# Altium footprint library PowerSupply.PcbLib: 26 footprints (part 2 of 2)
Each footprint in its own frame and in the unit in brackets; x right, y up, seen from the top. Pads: shape width x height; smd on the part's side, far side on the other; paste and mask are expansions set on the pad; w line width, h text height; cw(c..) or ccw(c..) is an arc to the next point about the centre after c.
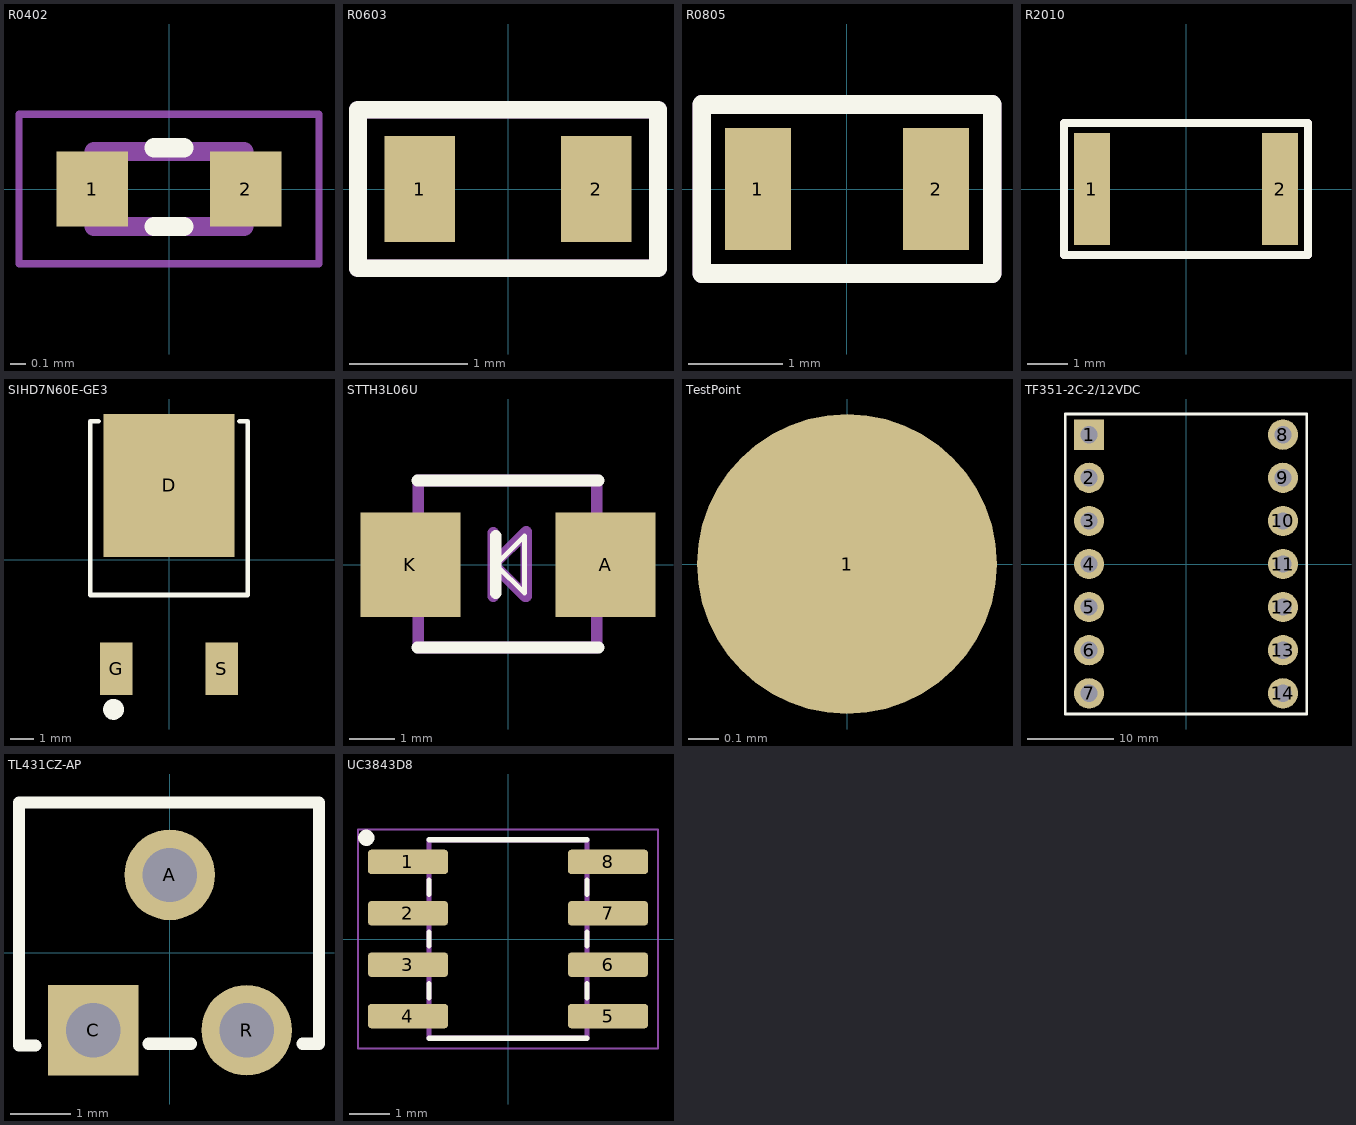
[diagram p1: the footprints below, top view; thin cyan lines are the x and y axes]

## R0402 [mm]
pads (2):
  rect 0.475x0.5 smd: 1(-0.512,0) 2(0.512,0)
Top Overlay:
  lines w0.127: -0.1,-0.25 0.1,-0.25 ; -0.1,0.275 0.1,0.275
Mechanical 13:
  lines w0.127: -0.5,-0.25 0.5,-0.25 0.5,0.25 -0.5,0.25 -0.5,-0.25
  text "'.Designator'" at -3.965,-0.292 h0.7
Mechanical 15:
  lines w0.05: -1,-0.5 1,-0.5 1,0.5 -1,0.5 -1,-0.5
3D body "step_temp.STEP": height 0.35, standoff 0, extent -0.5,-0.25 0.5,0.25

## R0603 [mm] "Guidelines for Footprint Design - Walsin Technology Corporation"
pads (2):
  rect 0.6x0.9 smd: 1(-0.75,0) 2(0.75,0)
Top Overlay:
  lines w0.15: -1.275,-0.675 1.275,-0.675 1.275,0.675 -1.275,0.675 -1.275,-0.675
Mechanical 29:
  lines w0.15: -1.275,-0.675 -1.275,0.675 1.275,0.675 1.275,-0.675 -1.275,-0.675
  text ".Designator" at -1,-0.425 h0.8
3D body "R0603_Package.STEP": height 0.44, standoff -0.02, extent -0.8,-0.4 0.8,0.4

## R0805 [mm] "Guidelines for Footprint Design - Walsin Technology Corporation"
pads (2):
  rect 0.7x1.3 smd: 1(-0.95,0) 2(0.95,0)
Top Overlay:
  lines w0.2: -1.55,-0.9 1.55,-0.9 1.55,0.9 -1.55,0.9 -1.55,-0.9
Mechanical 29:
  lines w0.2: -1.55,-0.9 1.55,-0.9 1.55,0.9 -1.55,0.9 -1.55,-0.9
  text ".Designator" at -1.3,-0.4 h0.8
3D body "R0805_Package.STEP": height 0.59, standoff -0.01, extent -1,-0.625 1,0.625
3D body "R0805_Package.STEP": height 0.59, standoff -0.01, extent -1,-0.6 1,0.65

## R2010 [mm]
pads (2):
  rect 0.9x2.8 smd: 1(-2.35,0) 2(2.35,0)
Top Overlay:
  lines w0.2: -3.05,-1.65 -3.05,1.65 3.05,1.65 3.05,-1.65 -3.05,-1.65
Mechanical 29:
  lines w0.2: -3.05,-1.65 3.05,-1.65 3.05,1.65 -3.05,1.65 -3.05,-1.65
  text ".Designator" at -2.25,-0.4 h1
3D body "R2010_Package.STEP": height 0.6, standoff 0, extent -2.5,-1.25 2.5,1.25

## SIHD7N60E-GE3 [mil]
pads (3):
  rect 224.02x243.31 smd: D(0,126.67)
  rect 55x90 smd: G(-90,-185.73) S(90,-185.73)
Top Overlay:
  circle w19.68: c-94.49,-254.92 r7.87
  lines w7.87: -120.08,236.22 -133.86,236.22 -133.86,-60.04 133.86,-60.04 133.86,236.22 120.08,236.22
Mechanical 1:
  text "'.Designator'" at -156.12,-11.48 h27.56
3D body "DPAK_N60E-E3_VIS.step": height 96.6, standoff 0.5, extent -132.51,-223.5 132.53,235.52

## STTH3L06U [mm]
pads (2):
  rect 2.2x2.3 smd mask+0.1: A(2.15,0) K(-2.15,0)
Top Overlay:
  lines w0.102: -0.271,0 0.364,0.635 0.364,0 0.364,-0.635 -0.271,0
  lines w0.25: -0.271,-0.635 -0.271,0 -0.271,0.635
  lines w0.254: -2,-1.825 2,-1.825 ; -2,1.85 2,1.85
Mechanical 1:
  text "'.Designator'" at -4.042,1.105 h0.7
Mechanical 29:
  lines w0.254: -0.325,-0.7 -0.325,0.7 ; 0.375,-0.7 -0.325,0 0.4,0.725 0.4,-0.7 ; 0.869,1.85 1.95,1.85 1.95,-1.825 -1.975,-1.825 -1.975,1.85 1.825,1.85
  text ".Designator" at -3.25,2.725 h1.3
3D body "User Library-DO-214AA_SMB.STEP": height 2.25, standoff 0, extent -2.65,-1.85 2.65,1.85

## TestPoint [mm]
pads (1):
  round 1 smd paste-10 mask+0.1: 1(0,0)
Top Designator:
  text ".Designator" at -2.999,-0.2 h0.6
Top Component Center:
  lines w0.15: -0.25,0 0.25,0 ; 0,-0.25 0,0.25

## TF351-2C-2/12VDC [mm]
pads (14):
  rect 3.5x3.5 hole 2: 1(-11.25,15)
  round 3.5 hole 2: 2(-11.25,10) 3(-11.25,5) 4(-11.25,0) 5(-11.25,-5) 6(-11.25,-10) 7(-11.25,-15) 8(11.25,15) 9(11.25,10) 10(11.25,5) 11(11.25,0) 12(11.25,-5) 13(11.25,-10) 14(11.25,-15)
Top Overlay:
  lines w0.3: -14,-17.4 14,-17.4 14,17.4 -14,17.4 -14,-17.4
Mechanical 1:
  text "'.Designator'" at -3.965,-0.292 h0.7
3D body: height 36.27, standoff 35, extent -12.5,-12.496 12.5,12.497
3D body: height 35, standoff 9.4, extent -7.1,-7.1 7.1,7.1
3D body: height 9.4, standoff 0, extent -14,-17.4 14,17.4
3D body: height 0, standoff -4, extent 10.721,-15.526 11.767,-14.478
3D body: height 0, standoff -4, extent 10.721,-10.526 11.767,-9.478
3D body: height 0, standoff -4, extent 10.721,-5.526 11.767,-4.478
3D body: height 0, standoff -4, extent 10.721,-0.526 11.767,0.522
3D body: height 0, standoff -4, extent 10.721,4.474 11.767,5.522
3D body: height 0, standoff -4, extent 10.721,9.474 11.767,10.522
3D body: height 0, standoff -4, extent 10.721,14.474 11.767,15.522
3D body: height 0, standoff -4, extent -11.779,-15.526 -10.733,-14.478
3D body: height 0, standoff -4, extent -11.779,-10.526 -10.733,-9.478
3D body: height 0, standoff -4, extent -11.779,-5.526 -10.733,-4.478
3D body: height 0, standoff -4, extent -11.779,-0.526 -10.733,0.522
3D body: height 0, standoff -4, extent -11.779,4.474 -10.733,5.522
3D body: height 0, standoff -4, extent -11.779,9.474 -10.733,10.522
3D body: height 0, standoff -4, extent -11.779,14.474 -10.733,15.522

## TL431CZ-AP [mm]
pads (3):
  round 1.5 hole 0.9: A(-0.002,1.288) R(1.273,-1.287)
  rect 1.5x1.5 hole 0.9: C(-1.272,-1.287)
Top Overlay:
  lines w0.2: -2.227,-1.537 -2.502,-1.537 -2.502,2.488 2.473,2.488 2.473,-1.512 2.198,-1.512 ; -0.352,-1.512 0.348,-1.512
3D body "TO-92_STM.step": height 5.42, standoff -2.27, extent -2.48,-1.525 2.473,2.5

## UC3843D8 [mm]
pads (8):
  rrect25% 1.97x0.6 smd: 1(-2.47,1.905) 2(-2.47,0.635) 3(-2.47,-0.635) 4(-2.47,-1.905) 5(2.47,-1.905) 6(2.47,-0.635) 7(2.47,0.635) 8(2.47,1.905)
Top Overlay:
  circle w0.2: c-3.5,2.5 r0.1
  lines w0.127: -1.95,-2.45 1.95,-2.45 ; -1.95,-1.45 -1.95,-1.1 ; -1.95,-0.175 -1.95,0.175 ; -1.95,1.1 -1.95,1.45 ; -1.95,2.45 1.95,2.45 ; 1.95,-1.45 1.95,-1.1 ; 1.95,-0.175 1.95,0.175 ; 1.95,1.1 1.95,1.45
Mechanical 1:
  text "'.Designator'" at -3.965,-0.292 h0.7
Mechanical 13:
  lines w0.127: -1.947,-2.452 -1.947,2.452 1.947,2.452 1.947,-2.452 -1.947,-2.452
Mechanical 15:
  lines w0.05: -3.705,-2.702 3.705,-2.702 3.705,2.702 -3.705,2.702 -3.705,-2.702
3D body "step_temp.STEP": height 1.75, standoff 0, extent -2.997,-2.451 2.997,2.451